# EAGLE library part 74LVC2G06 (library ads4)
Dual open-drain inverter
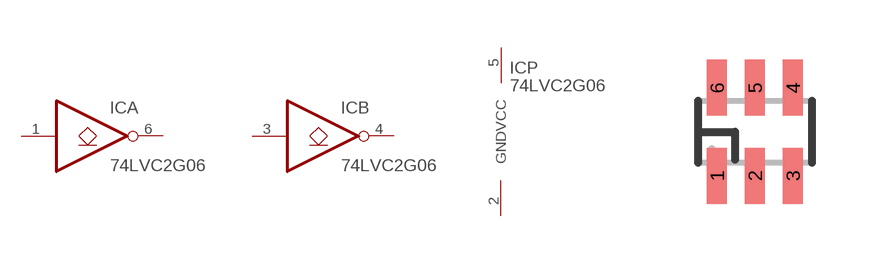
[diagram p99: symbol with the pads of SOT23-6; footprint SOT23-6]

Designator prefix IC; gates A=7406 B=7406 P=POWER2

## 74LVC2G06DBV  [SOT23-6]
1  A:I  in
2  P:GND  pwr
3  B:I  in
4  B:O  out
5  P:VCC  pwr
6  A:O  out

## Footprint SOT23-6 (pad centres in mm)
SOT23-6 package This is the DBV6 package from Texas Instruments. It differs from the one in the Eagle libraries (there are two versions in ref-packages.lbr) in that the pad dimensions are 0.5mm x 1.4mm, as in the TI recommendation. The pin spacing is 0.95mm, and the package body has nominal dimensions 2.9mm long by 1.6mm wide.
smd 0.5 x 1.4: 1 -0.95,-1.1; 2 0,-1.1; 3 0.95,-1.1; 4 0.95,1.1; 5 0,1.1; 6 -0.95,1.1